# EAGLE library part SSW-104-02-S-D (library con-samtec)
THROUGH-HOLE .025" SQ POST SOCKET Source: Samtec SSW.pdf
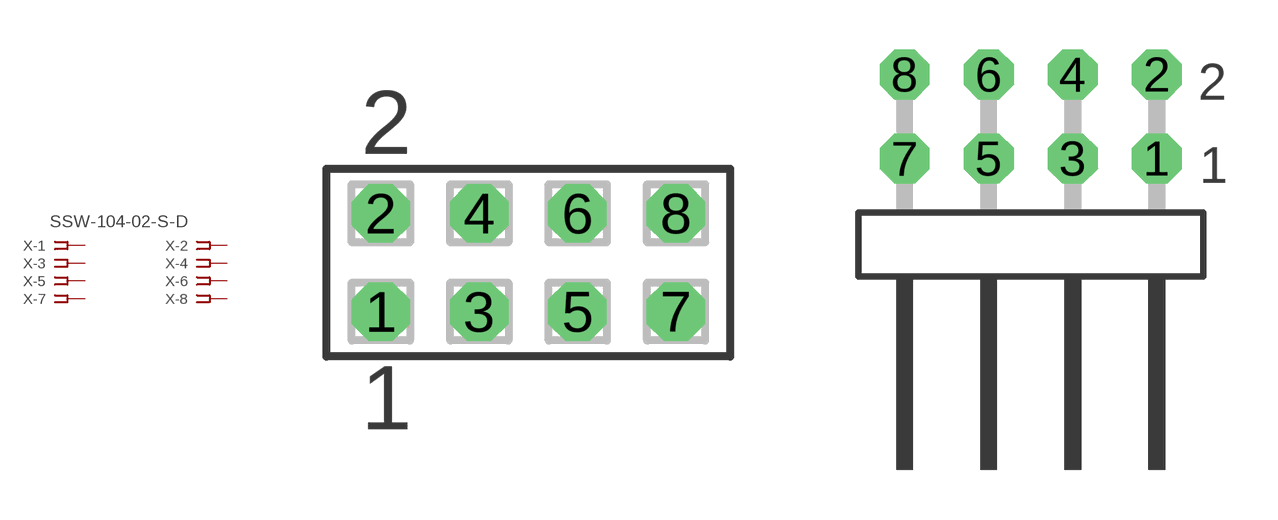
[diagram p195: symbol with the pads of SSW-104-02-S-D; footprints SSW-104-02-S-D, TSW-104-02-S-D-RA]

Designator prefix X; gates -1=FPINV -2=FPIN -3=FPIN -4=FPIN -5=FPIN -6=FPIN -7=FPIN -8=FPIN

## SSW-104-02-S-D (MPN: SSW-104-02-S-D; OC_FARNELL: 1668346; OC_NEWARK: 11P9382)  [SSW-104-02-S-D]
1  -1:1  pas
2  -2:1  pas
3  -3:1  pas
4  -4:1  pas
5  -5:1  pas
6  -6:1  pas
7  -7:1  pas
8  -8:1  pas

## SSW-104-02-S-D-RA (MPN: SSW-104-02-S-D-RA; OC_FARNELL: unknown; OC_NEWARK: 11P9383)  [TSW-104-02-S-D-RA]
Pads as for SSW-104-02-S-D

## Footprint SSW-104-02-S-D (pad centres in mm)
THROUGH-HOLE .025" SQ POST SOCKET Source: Samtec SSW.pdf
drill 1 pad 1.5 octagon: 1 -3.81,-1.27; 2 -3.81,1.27; 3 -1.27,-1.27; 4 -1.27,1.27; 5 1.27,-1.27; 6 1.27,1.27; 7 3.81,-1.27; 8 3.81,1.27

## Footprint TSW-104-02-S-D-RA (pad centres in mm)
THROUGH-HOLE .025" SQ POST HEADER Source: Samtec TSW.pdf
drill 1 pad 1.5 octagon: 1 3.81,1.524; 2 3.81,4.064; 3 1.27,1.524; 4 1.27,4.064; 5 -1.27,1.524; 6 -1.27,4.064; 7 -3.81,1.524; 8 -3.81,4.064